# EAGLE library part AS-ITM-00029 (library tinycircuits)
IC USB FS SERIAL UART 32-QFN
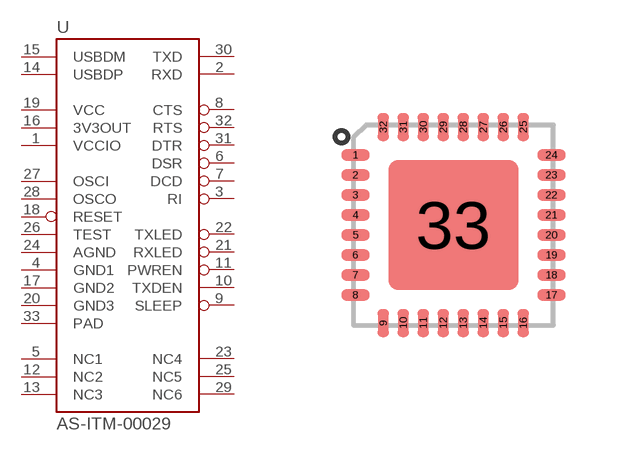
[diagram p8: symbol with the pads of MLF32; footprint MLF32]

Designator prefix U

## AS-ITM-00029 (PARTNO: AS-ITM-00029; VALUE: FT232RQ)  [MLF32]
1  VCCIO  pwr
2  RXD
3  RI
4  GND1  pwr
5  NC1
6  DSR
7  DCD
8  CTS
9  SLEEP
10  TXDEN
11  PWREN
12  NC2
13  NC3
14  USBDP
15  USBDM
16  3V3OUT  pwr
17  GND2  pwr
18  RESET
19  VCC  pwr
20  GND3  pwr
21  RXLED
22  TXLED
23  NC4
24  AGND
25  NC5
26  TEST
27  OSCI
28  OSCO
29  NC6
30  TXD
31  DTR
32  RTS
33  PAD  pwr

## Footprint MLF32 (pad centres in mm)
mlf-32
smd 0.7 x 0.28: 1 -2.45,1.75; 2 -2.45,1.25; 3 -2.45,0.75; 4 -2.45,0.25; 5 -2.45,-0.25; 6 -2.45,-0.75; 7 -2.45,-1.25; 8 -2.45,-1.75; 17 2.45,-1.75; 18 2.45,-1.25; 19 2.45,-0.75; 20 2.45,-0.25; 21 2.45,0.25; 22 2.45,0.75; 23 2.45,1.25; 24 2.45,1.75
smd 0.28 x 0.7: 9 -1.75,-2.45; 10 -1.25,-2.45; 11 -0.75,-2.45; 12 -0.25,-2.45; 13 0.25,-2.45; 14 0.75,-2.45; 15 1.25,-2.45; 16 1.75,-2.45; 25 1.75,2.45; 26 1.25,2.45; 27 0.75,2.45; 28 0.25,2.45; 29 -0.25,2.45; 30 -0.75,2.45; 31 -1.25,2.45; 32 -1.75,2.45
smd 3.254 x 3.254: 33 0,0